# Altium integrated library SM10B-XSRS-ETB_LF__SN_.IntLib: 1 symbol
Pins are listed as number, name and electrical type; pins without a type are passive.

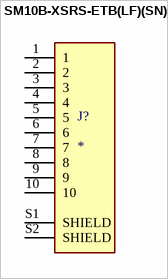
[diagram p0: symbol SM10B-XSRS-ETB(LF)(SN)]

## SM10B-XSRS-ETB(LF)(SN)
designator J?
Connector Header Surface Mount, Right Angle 10 position 0.024 (0.60mm); MF: JST Sales; MP: SM10B-XSRS-ETB(LF)(SN); SnapEDA_Link: https://www.snapeda.com/parts/SM10B-XSRS-ETB(LF)(SN)/JST/view-part/?ref=snap; Package: None; Value: *; Check_prices: https://www.snapeda.com/parts/SM10B-XSRS-ETB(LF)(SN)/JST/view-part/?ref=eda
footprint JST_SM10B-XSRS-ETB(LF)(SN)
pins: 1, 2, 3, 4, 5, 6, 7, 8, 9, 10, S1 SHIELD, S2 SHIELD